# EAGLE library part OPA2348 (library texas-instruments)
1MHz, 45µA, CMOS, Rail-to-Rail Operational Amplifier The OPA348 series amplifiers are single supply, low-power, CMOS op amps in micro packaging. Featuring an extended bandwidth of 1MHz, and a supply current of 45µA, the OPA348 series is useful for low-power applications on single supplies of 2.1V to 5.5V. Low supply current of 45µA, and an input bias current of 0.5pA, make the OPA348 series an optimal candidate for low-power, high-impedance applications such as smoke detectors and other sensors. The OPA348 is available in the miniature SC70-5, SOT23-5 and SO-8 packages. The OPA2348 is available in SOT23-8 and SO-8 packages, and the OPA4348 is offered in space-saving TSSOP-14 and SO-14 packages. The extended temperature range of –40°C to +125°C over all supply voltages offers additional design flexibility.
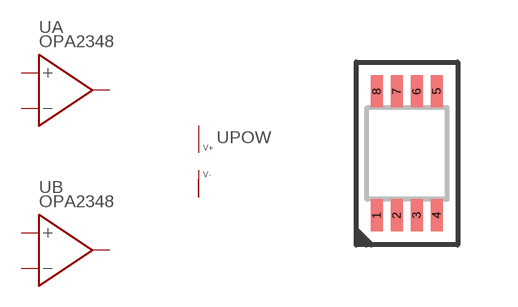
[diagram p7: symbol with the pads of R-PDSO-G8; footprint R-PDSO-G8]

Designator prefix U; gates A=OPAMP-NONSHUTDOWN B=OPAMP-NONSHUTDOWN POW=V+-

## OPA2348  [R-PDSO-G8]
1  A:OUT  out
2  A:-IN  in
3  A:+IN  in
4  POW:V-  pwr
5  B:+IN  in
6  B:-IN  in
7  B:OUT  out
8  POW:V+  pwr

## Footprint R-PDSO-G8 (pad centres in mm)
smd 0.3 x 0.8: 1 -0.75,-1.55; 2 -0.25,-1.55; 3 0.25,-1.55; 4 0.75,-1.55; 5 0.75,1.55; 6 0.25,1.55; 7 -0.25,1.55; 8 -0.75,1.55